# Altium footprint library CN_MicroMatch_8P_215079-8.PcbLib: 1 footprints
Each footprint in its own frame and in the unit in brackets; x right, y up, seen from the top. Pads: shape width x height; smd on the part's side, far side on the other; paste and mask are expansions set on the pad; w line width, h text height; cw(c..) or ccw(c..) is an arc to the next point about the centre after c.
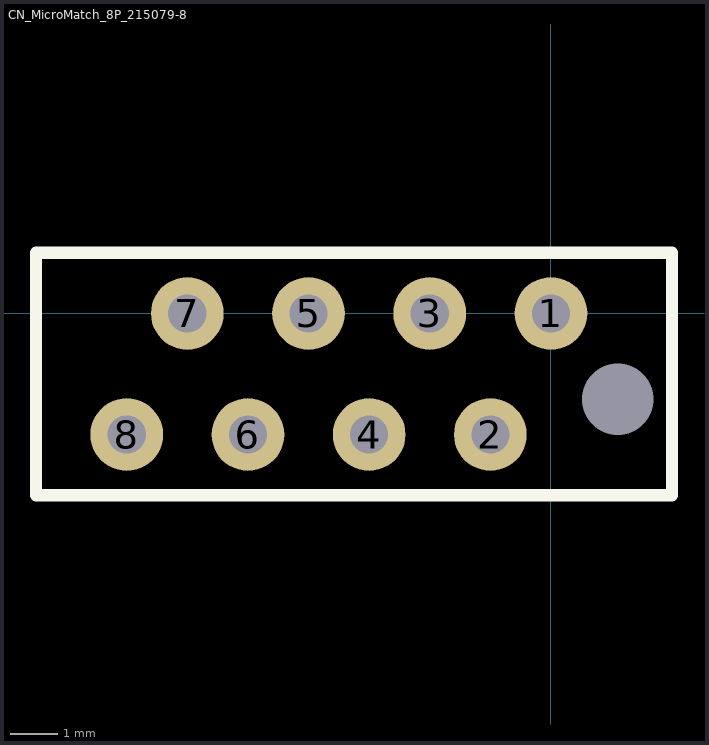
[diagram p0: the footprint, top view; thin cyan lines are the x and y axes]

## CN_MicroMatch_8P_215079-8 [mil] "MicroMatch 8p through hole vertical"
pads (9):
  round 0 hole 59.06 unplated mask+29.53: 0(55.12,-70.87)
  round 60 hole 31.5: 1(0,0) 2(-50,-100) 3(-100,0) 4(-150,-100) 5(-200,0) 6(-250,-100) 7(-300,0) 8(-350,-100)
Top Overlay:
  lines w10: -425,-150 100,-150 100,50 -425,50 -425,-150
3D body: height 157.48, standoff -118.11, extent -412.99,-148.42 63,48.43